# Altium schematic symbol library ATMEGA4809-PF.SchLib: 1 symbol
Pins are listed as number, name and electrical type; pins without a type are passive.

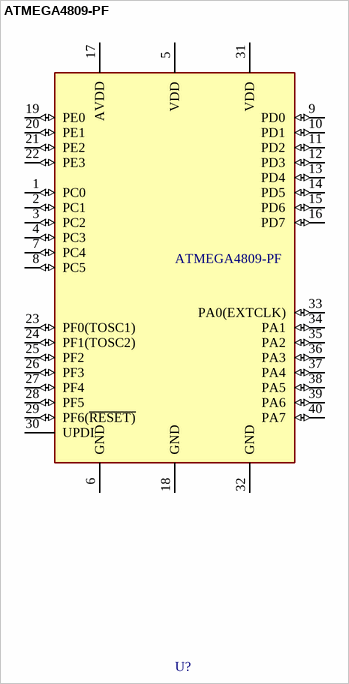
[diagram p0: symbol ATMEGA4809-PF]

## ATMEGA4809-PF
designator U?
IC MCU 8BIT 48KB FLASH 40DIP; RoHS Compliant: Yes
footprint FP-C04-016-MFG
pins: 1 PC0 (io), 2 PC1 (io), 3 PC2 (io), 4 PC3 (io), 5 VDD (power), 6 GND (power), 7 PC4 (io), 8 PC5 (io), 9 PD0 (io), 10 PD1 (io), 11 PD2 (io), 12 PD3 (io), 13 PD4 (io), 14 PD5 (io), 15 PD6 (io), 16 PD7 (io), 17 AVDD (power), 18 GND (power), 19 PE0 (io), 20 PE1 (io), 21 PE2 (io), 22 PE3 (io), 23 PF0(TOSC1) (io), 24 PF1(TOSC2) (io), 25 PF2 (io), 26 PF3 (io), 27 PF4 (io), 28 PF5 (io), 29 PF6(~{RESET)} (io), 30 UPDI, 31 VDD (power), 32 GND (power), 33 PA0(EXTCLK) (io), 34 PA1 (io), 35 PA2 (io), 36 PA3 (io), 37 PA4 (io), 38 PA5 (io), 39 PA6 (io), 40 PA7 (io)